# EAGLE library part PCF8563 (library pcf8563)
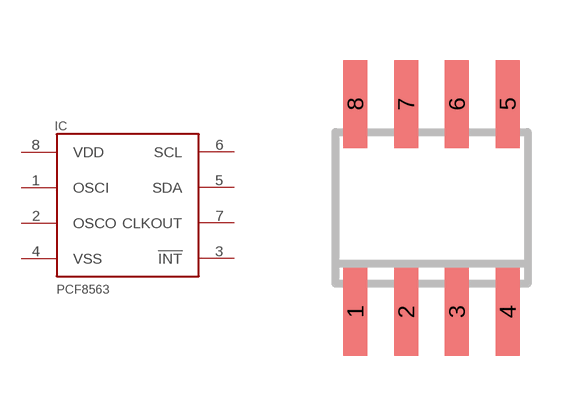
[diagram p0: symbol with the pads of SO08; footprint SO08]

Designator prefix IC

## PCF8563  [SO08]
1  OSCI  pas
2  OSCO  pas
3  !INT
4  VSS  pwr
5  SDA
6  SCL
7  CLKOUT
8  VDD  pwr

## Footprint SO08 (pad centres in mm)
Small Outline Package 8 NS Package M08A
smd 0.6 x 2.2: 1 -1.905,-2.6; 2 -0.635,-2.6; 3 0.635,-2.6; 4 1.905,-2.6; 5 1.905,2.6; 6 0.635,2.6; 7 -0.635,2.6; 8 -1.905,2.6